# Altium schematic symbol library Pushbutton.SchLib: 1 symbol
Pins are listed as number, name and electrical type; pins without a type are passive.

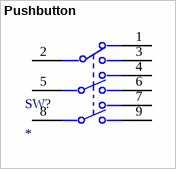
[diagram p0: symbol Pushbutton]

## Pushbutton
designator SW?
footprint Pushbutton
pins: 1, 2, 3, 4, 5, 6, 7, 8, 9